# Altium footprint library 1206 Resistor_1.PcbLib: 1 footprints
Each footprint in its own frame and in the unit in brackets; x right, y up, seen from the top. Pads: shape width x height; smd on the part's side, far side on the other; paste and mask are expansions set on the pad; w line width, h text height; cw(c..) or ccw(c..) is an arc to the next point about the centre after c.
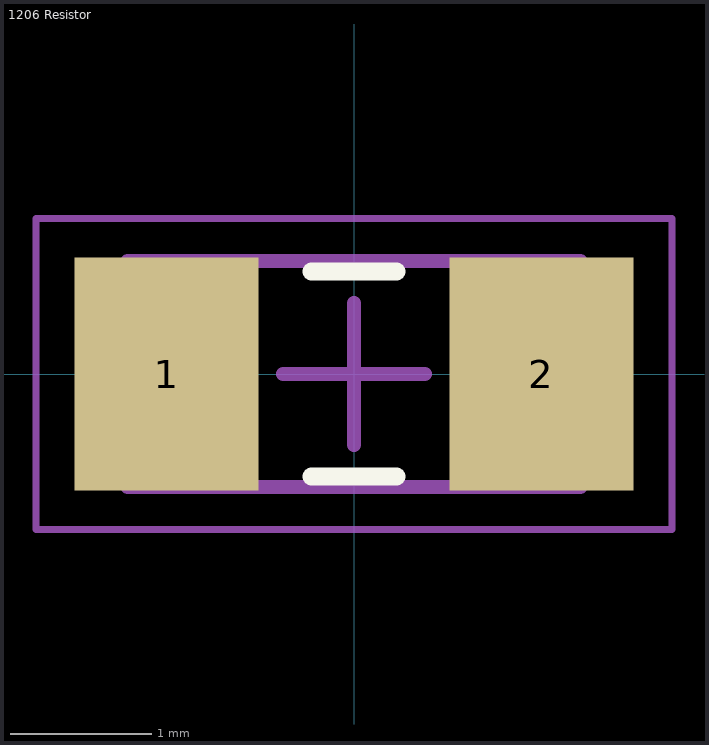
[diagram p0: the footprint, top view; thin cyan lines are the x and y axes]

## 1206 Resistor [mm]
height 0.5
pads (2):
  rect 1.3x1.65 smd: 1(-1.325,0) 2(1.325,0)
Top Overlay:
  lines w0.127: -0.3,-0.725 0.3,-0.725 ; -0.3,0.725 0.3,0.725
Mechanical 13:
  lines w0.1: -1.6,-0.8 -1.6,0.8 1.6,0.8 1.6,-0.8 -1.6,-0.8
Mechanical 15:
  lines w0.05: -2.25,-1.1 -2.25,1.1 2.25,1.1 2.25,-1.1 -2.25,-1.1
  lines w0.1: -0.5,0 0.5,0 ; 0,-0.5 0,0.5
3D body: height 0.5, standoff 0, extent -0.7,-0.8 0.7,0.8
3D body: height 0.5, standoff 0, extent -1.6,-0.8 -0.7,0.8
3D body: height 0.5, standoff 0, extent 0.7,-0.8 1.6,0.8